# Altium schematic symbol library SCH - ADC - TI ADS1120 QFN.SCHLIB: 1 symbol
Pins are listed as number, name and electrical type; pins without a type are passive.

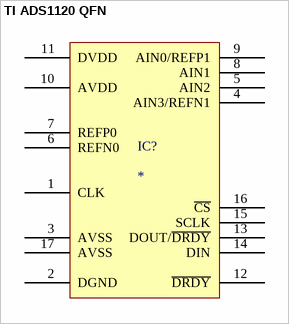
[diagram p0: symbol TI ADS1120 QFN]

## TI ADS1120 QFN
designator IC?
pins: 1 CLK, 2 DGND, 3 AVSS, 4 AIN3/REFN1, 5 AIN2, 6 REFN0, 7 REFP0, 8 AIN1, 9 AIN0/REFP1, 10 AVDD, 11 DVDD, 12 ~{DRDY}, 13 DOUT/~{DRDY}, 14 DIN, 15 SCLK, 16 ~{CS}, 17 AVSS